# EAGLE library part TEM-HUM-SENSOR(BGA8) (library Seeed-OPL-sensor)
314010025
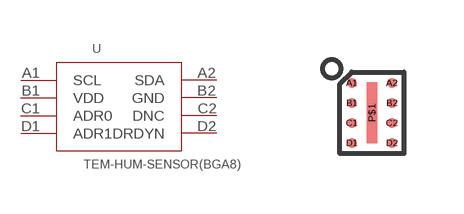
[diagram p24: symbol with the pads of SNR8-SMD-0.5-2.04X1.59MM; footprint SNR8-SMD-0.5-2.04X1.59MM]

Designator prefix U

## TEM-HUM-SENSOR(BGA8) (PMN: HDC1000YPAT; VALUE: HDC1000YPAT)  [SNR8-SMD-0.5-2.04X1.59MM]
A1  SCL
A2  SDA
B1  VDD
B2  GND
C1  ADR0
C2  DNC
D1  ADR1
D2  DRDYN

## Footprint SNR8-SMD-0.5-2.04X1.59MM (pad centres in mm)
smd 0.25 x 0.25: A1 -0.5,0.75; A2 0.5,0.75; B1 -0.5,0.25; B2 0.5,0.25; C1 -0.5,-0.25; C2 0.5,-0.25; D1 -0.5,-0.75; D2 0.5,-0.75
smd 0.254 x 1.524: P$1 0,0